# EAGLE library part 233-124 (library con-wago_233)
Serie 233, Klemmenleiste für Leiterplatten 2 Lötstifte/Pol / Series 233, PCB terminal strip 2 solder pins/pole Polzahl / Pole No.: 24 Rastermaß / Pitch: 2.5 - 2.5 mm Bemessungsspannung / Rated Voltage: 160 V Nennstrom / Nominal Current: 6 A Leiterquerschnitt / Conductor Size: 0.08 - 0.5 mm2 Anschlusstechnik / Connection Technology: CAGE CLAMP® Lötstiftlänge: / Solder Pin Length: 4 mm Leitereinführung (zur Platine) / Conductor entry angle (to PCB): 30 ° Farbe / Color: grau / gray Stand: 01.01.2014. Die jeweils aktuellen Daten zu diesem Artikel finden Sie in unserem Produktkatalog, den Sie unter www.wago.com einsehen können. As of: 01/01/2014. Please find the newest data for this article in our product catalogue, which can be viewed under www.wago.com.
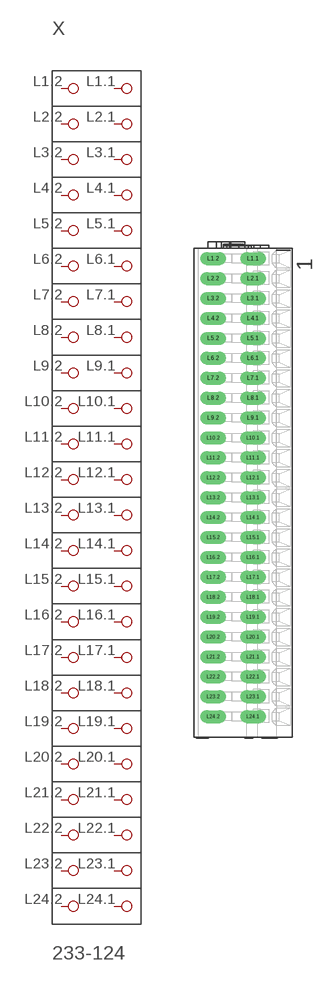
[diagram p10: symbol with the pads of P-233-124; footprint P-233-124]

Designator prefix X

## 233-124  [P-233-124]
L1.1  P1.1
L1.2  P1.2
L2.1  P2.1
L2.2  P2.2
L3.1  P3.1
L3.2  P3.2
L4.1  P4.1
L4.2  P4.2
L5.1  P5.1
L5.2  P5.2
L6.1  P6.1
L6.2  P6.2
L7.1  P7.1
L7.2  P7.2
L8.1  P8.1
L8.2  P8.2
L9.1  P9.1
L9.2  P9.2
L10.1  P10.1
L10.2  P10.2
L11.1  P11.1
L11.2  P11.2
L12.1  P12.1
L12.2  P12.2
L13.1  P13.1
L13.2  P13.2
L14.1  P14.1
L14.2  P14.2
L15.1  P15.1
L15.2  P15.2
L16.1  P16.1
L16.2  P16.2
L17.1  P17.1
L17.2  P17.2
L18.1  P18.1
L18.2  P18.2
L19.1  P19.1
L19.2  P19.2
L20.1  P20.1
L20.2  P20.2
L21.1  P21.1
L21.2  P21.2
L22.1  P22.1
L22.2  P22.2
L23.1  P23.1
L23.2  P23.2
L24.1  P24.1
L24.2  P24.2

## Footprint P-233-124 (pad centres in mm)
drill 1.1 long: L1.1 1.238,29.05; L1.2 -3.762,29.05; L2.1 1.238,26.55; L2.2 -3.762,26.55; L3.1 1.238,24.05; L3.2 -3.762,24.05; L4.1 1.238,21.55; L4.2 -3.762,21.55; L5.1 1.238,19.05; L5.2 -3.762,19.05; L6.1 1.238,16.55; L6.2 -3.762,16.55; L7.1 1.238,14.05; L7.2 -3.762,14.05; L8.1 1.238,11.55; L8.2 -3.762,11.55; L9.1 1.238,9.05; L9.2 -3.762,9.05; L10.1 1.238,6.55; L10.2 -3.762,6.55; L11.1 1.238,4.05; L11.2 -3.762,4.05; L12.1 1.238,1.55; L12.2 -3.762,1.55; L13.1 1.238,-0.95; L13.2 -3.762,-0.95; L14.1 1.238,-3.45; L14.2 -3.762,-3.45; L15.1 1.238,-5.95; L15.2 -3.762,-5.95; L16.1 1.238,-8.45; L16.2 -3.762,-8.45; L17.1 1.238,-10.95; L17.2 -3.762,-10.95; L18.1 1.238,-13.45; L18.2 -3.762,-13.45; L19.1 1.238,-15.95; L19.2 -3.762,-15.95; L20.1 1.238,-18.45; L20.2 -3.762,-18.45; L21.1 1.238,-20.95; L21.2 -3.762,-20.95; L22.1 1.238,-23.45; L22.2 -3.762,-23.45; L23.1 1.238,-25.95; L23.2 -3.762,-25.95; L24.1 1.238,-28.45; L24.2 -3.762,-28.45